# Altium integrated library con-wago-508.IntLib: 17 symbols
Pins are listed as number, name and electrical type; pins without a type are passive.

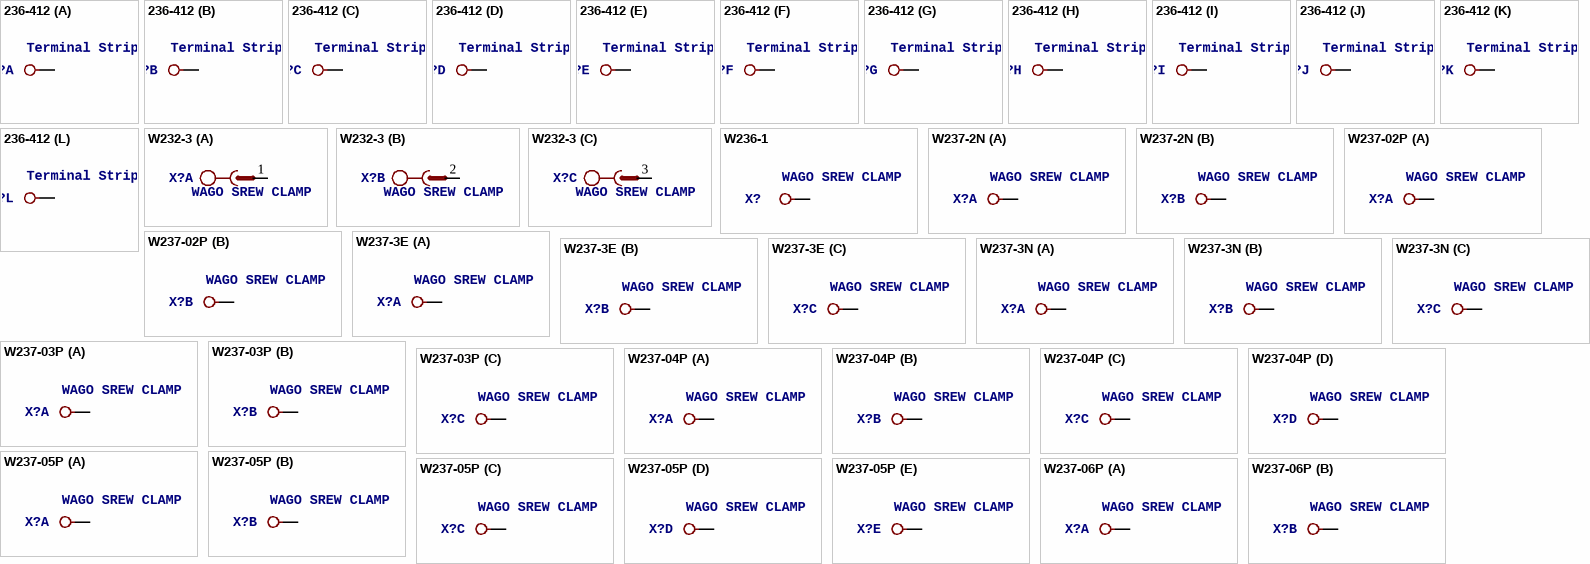
[diagram p0: symbols 236-412 to W237-06P]

## 236-412
designator X?, comment Terminal Strips 2.5 mm2/AWG 12, Series 236, Pin Spacings 5/5.08 mm   Source:  Data sheet
MPN: 0236-0412; MF: Wago Corporation; OC_FARNELL: 1283531; OC_NEWARK: 79K2064
footprint 236-412
part A pins: 1@1 KL1, 1@2 KL2
part B pins: 2@1 KL1, 2@2 KL2
part C pins: 3@1 KL1, 3@2 KL2
part D pins: 4@1 KL1, 4@2 KL2
part E pins: 5@1 KL1, 5@2 KL2
part F pins: 6@1 KL1, 6@2 KL2
part G pins: 7@1 KL1, 7@2 KL2
part H pins: 8@1 KL1, 8@2 KL2
part I pins: 9@1 KL1, 9@2 KL2
part J pins: 10@1 KL1, 10@2 KL2
part K pins: 11@1 KL1, 11@2 KL2
part L pins: 12@1 KL1, 12@2 KL2

## W232-3
designator X?, comment WAGO SREW CLAMP
OC_FARNELL: unknown; OC_NEWARK: unknown
footprint W232-3
part A pins: 1 SK
part B pins: 2 SK
part C pins: 3 SK

## W236-1
designator X?, comment WAGO SREW CLAMP
OC_FARNELL: unknown; OC_NEWARK: unknown
footprint W236-1
pins: 1 KL1, 2 KL2

## W237-2N
designator X?, comment WAGO SREW CLAMP
OC_FARNELL: unknown; OC_NEWARK: unknown
footprint W237-2N
part A pins: 1 KL
part B pins: 2 KL

## W237-02P
designator X?, comment WAGO SREW CLAMP
OC_FARNELL: unknown; OC_NEWARK: unknown
footprint W237-132
part A pins: 1 KL
part B pins: 2 KL

## W237-3E
designator X?, comment WAGO SREW CLAMP
OC_FARNELL: unknown; OC_NEWARK: unknown
footprint W237-3E
part A pins: 1 KL
part B pins: 2 KL
part C pins: 3 KL

## W237-3N
designator X?, comment WAGO SREW CLAMP
OC_FARNELL: unknown; OC_NEWARK: unknown
footprint W237-3N
part A pins: 1 KL
part B pins: 2 KL
part C pins: 3 KL

## W237-03P
designator X?, comment WAGO SREW CLAMP
OC_FARNELL: unknown; OC_NEWARK: unknown
footprint W237-133
part A pins: 1 KL
part B pins: 2 KL
part C pins: 3 KL

## W237-04P
designator X?, comment WAGO SREW CLAMP
OC_FARNELL: unknown; OC_NEWARK: unknown
footprint W237-4P
part A pins: 1 KL
part B pins: 2 KL
part C pins: 3 KL
part D pins: 4 KL

## W237-05P
designator X?, comment WAGO SREW CLAMP
OC_FARNELL: unknown; OC_NEWARK: unknown
footprint W237-5P
part A pins: 1 KL
part B pins: 2 KL
part C pins: 3 KL
part D pins: 4 KL
part E pins: 5 KL

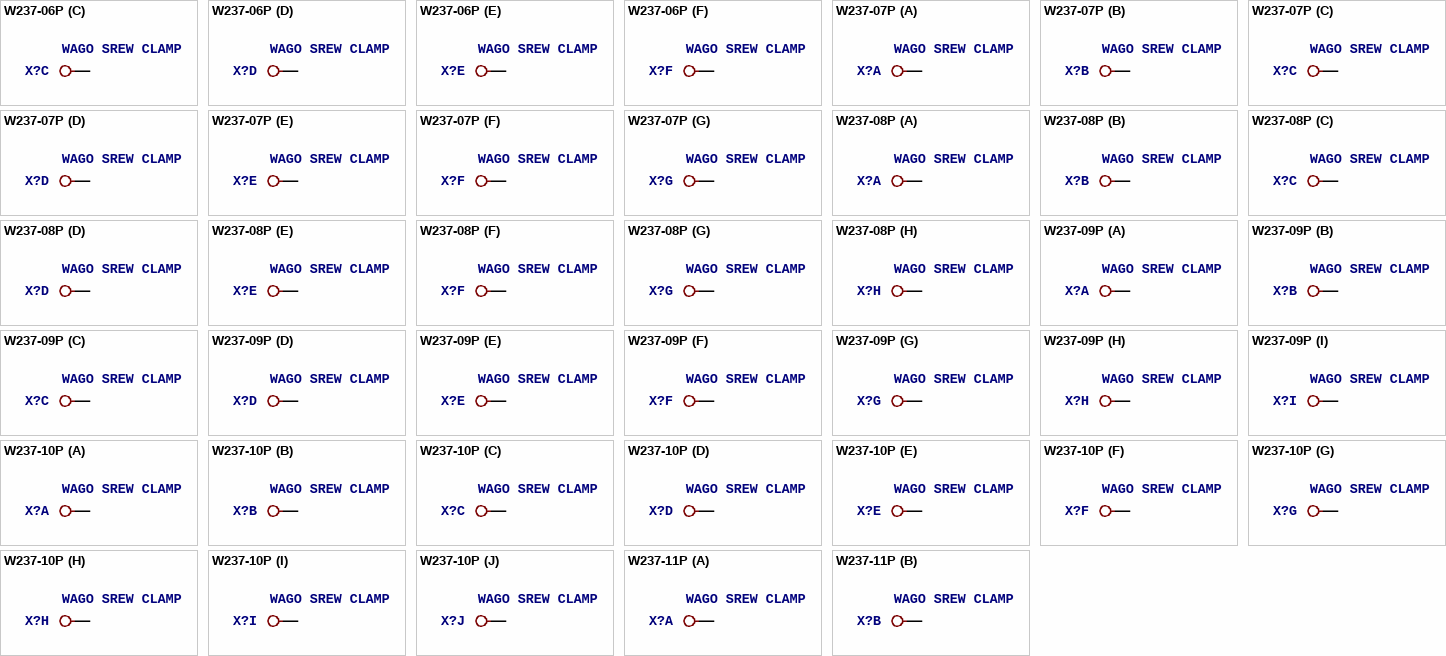
[diagram p1: symbols W237-06P to W237-11P]

## W237-06P
designator X?, comment WAGO SREW CLAMP
OC_FARNELL: unknown; OC_NEWARK: unknown
footprint W237-6P
part A pins: 1 KL
part B pins: 2 KL
part C pins: 3 KL
part D pins: 4 KL
part E pins: 5 KL
part F pins: 6 KL

## W237-07P
designator X?, comment WAGO SREW CLAMP
OC_FARNELL: unknown; OC_NEWARK: unknown
footprint W237-7P
part A pins: 1 KL
part B pins: 2 KL
part C pins: 3 KL
part D pins: 4 KL
part E pins: 5 KL
part F pins: 6 KL
part G pins: 7 KL

## W237-08P
designator X?, comment WAGO SREW CLAMP
OC_FARNELL: unknown; OC_NEWARK: unknown
footprint W237-8P
part A pins: 1 KL
part B pins: 2 KL
part C pins: 3 KL
part D pins: 4 KL
part E pins: 5 KL
part F pins: 6 KL
part G pins: 7 KL
part H pins: 8 KL

## W237-09P
designator X?, comment WAGO SREW CLAMP
OC_FARNELL: unknown; OC_NEWARK: unknown
footprint W237-9P
part A pins: 1 KL
part B pins: 2 KL
part C pins: 3 KL
part D pins: 4 KL
part E pins: 5 KL
part F pins: 6 KL
part G pins: 7 KL
part H pins: 8 KL
part I pins: 9 KL

## W237-10P
designator X?, comment WAGO SREW CLAMP
OC_FARNELL: unknown; OC_NEWARK: unknown
footprint W237-10P
part A pins: 1 KL
part B pins: 2 KL
part C pins: 3 KL
part D pins: 4 KL
part E pins: 5 KL
part F pins: 6 KL
part G pins: 7 KL
part H pins: 8 KL
part I pins: 9 KL
part J pins: 10 KL

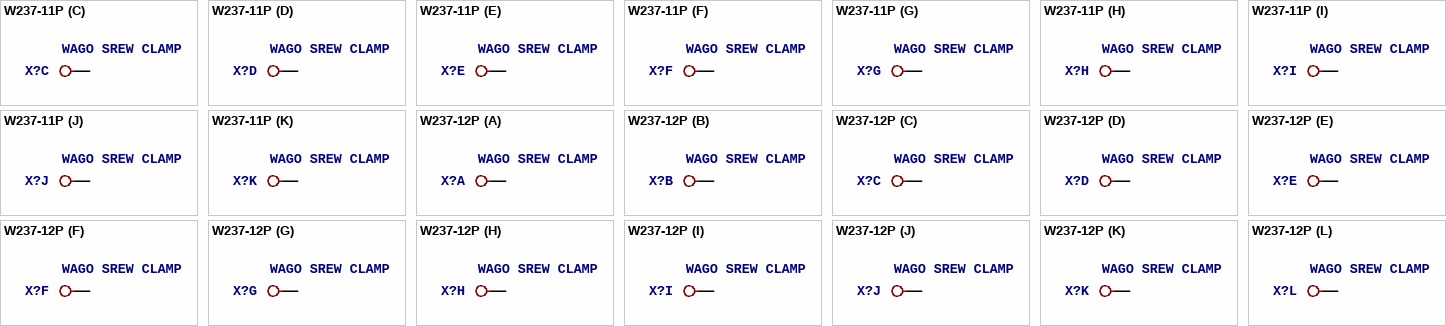
[diagram p2: symbols W237-11P to W237-12P]

## W237-11P
designator X?, comment WAGO SREW CLAMP
OC_FARNELL: unknown; OC_NEWARK: unknown
footprint W237-11P
part A pins: 1 KL
part B pins: 2 KL
part C pins: 3 KL
part D pins: 4 KL
part E pins: 5 KL
part F pins: 6 KL
part G pins: 7 KL
part H pins: 8 KL
part I pins: 9 KL
part J pins: 10 KL
part K pins: 11 KL

## W237-12P
designator X?, comment WAGO SREW CLAMP
OC_FARNELL: unknown; OC_NEWARK: unknown
footprint W237-12P
part A pins: 1 KL
part B pins: 2 KL
part C pins: 3 KL
part D pins: 4 KL
part E pins: 5 KL
part F pins: 6 KL
part G pins: 7 KL
part H pins: 8 KL
part I pins: 9 KL
part J pins: 10 KL
part K pins: 11 KL
part L pins: 12 KL